# Altium schematic symbol library MCP73831-2ACI_MC.SchLib: 1 symbol
Pins are listed as number, name and electrical type; pins without a type are passive.

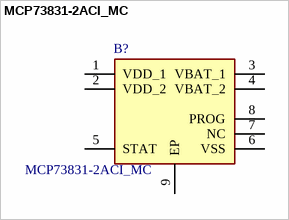
[diagram p0: symbol MCP73831-2ACI_MC]

## MCP73831-2ACI_MC
designator B?
Microchip MCP73831-2ACI/MC, Battery Charge Controller Lithium-Ion, Lithium-Polymer, 8-pin DFN; Geometry.Height: 1mm; Manufacturer_Name: Microchip; Manufacturer_Part_Number: MCP73831-2ACI/MC; Mouser Part Number: 579-MCP73831-2ACI/MC; Mouser Price/Stock: https://www.mouser.co.uk/ProductDetail/Microchip-Technology/MCP73831-2ACI-MC?qs=hH%252BOa0VZEiBneYTVdpuVdg%3D%3D; Arrow Part Number: MCP73831-2ACI/MC; Arrow Price/Stock: https://www.arrow.com/en/products/mcp73831-2acimc/microchip-technology?region=nac; Datasheet Link: https://datasheet.datasheetarchive.com/originals/distributors/SFDatasheet-4/sf-00090108.pdf
footprint SON50P300X200X100-9N-D
pins: 1 VDD_1, 2 VDD_2, 3 VBAT_1, 4 VBAT_2, 5 STAT, 6 VSS, 7 NC, 8 PROG, 9 EP